# Altium footprint library PCB - CONNECTOR - MOLEX - MOLEX 1720650010.PcbLib: 1 footprints
Each footprint in its own frame and in the unit in brackets; x right, y up, seen from the top. Pads: shape width x height; smd on the part's side, far side on the other; paste and mask are expansions set on the pad; w line width, h text height; cw(c..) or ccw(c..) is an arc to the next point about the centre after c.
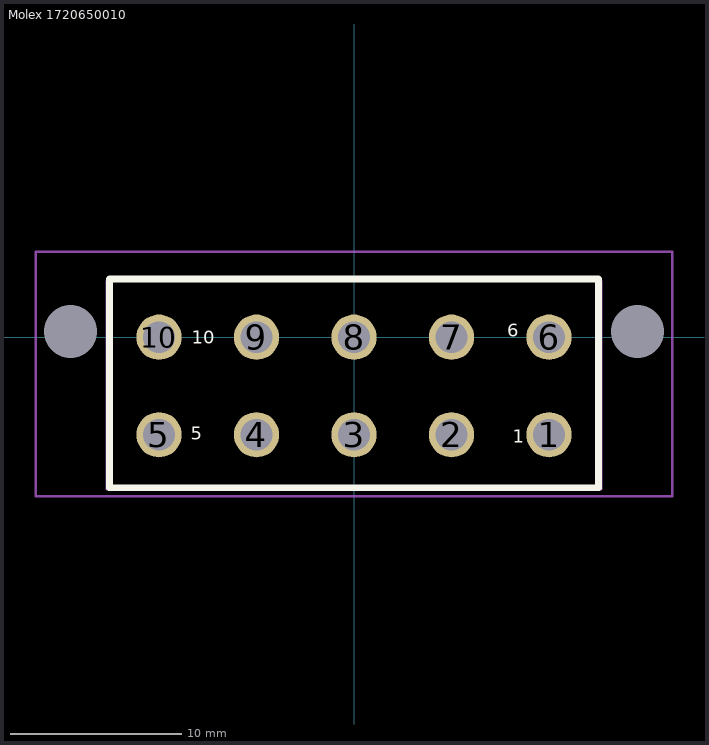
[diagram p0: the footprint, top view; thin cyan lines are the x and y axes]

## Molex 1720650010 [mm]
height 14.8
pads (12):
  round 2.65 hole 1.85 mask+0.1: 1(11.4,-5.7) 2(5.7,-5.7) 3(0,-5.7) 4(-5.7,-5.7) 5(-11.4,-5.7) 6(11.4,0) 7(5.7,0) 8(0,0) 9(-5.7,0) 10(-11.4,0)
  round 0 hole 3.1 unplated mask+0.2: HOLE(-16.57,0.325) HOLE(16.57,0.325)
Top Overlay:
  lines w0.4: -14.3,-8.8 14.3,-8.8 14.3,3.4 -14.3,3.4 -14.3,-8.8
  text "10" at -9.471,-0.381 h0.76
  text "5" at -9.554,-5.981 h0.76
  text "6" at 8.946,0.019 h0.76
  text "1" at 9.273,-6.181 h0.76
Mechanical 13:
  lines w0.1: -14.478,-8.9 14.478,-8.9 14.478,3.302 -14.478,3.302 -14.478,-8.9
Mechanical 15 (Mech15):
  lines w0.1: -1.25,0 0,0 ; 0,-1.25 0,0 ; 0,1.2 0,0 ; 1.25,0 0,0
  lines w0.15: -18.6,-9.3 18.6,-9.3 18.6,5 -18.6,5 -18.6,-9.3
3D body "Molex - 1720650010.stp": height 14.88, standoff -3.7, extent -18.096,-9 18.096,5.034